# EAGLE library part PCA9555PW (library PCA9555PW)
Check prices <https://pricing.snapeda.com/parts/PCA9555PW/Texas%20Instruments/view-part?ref=eda>
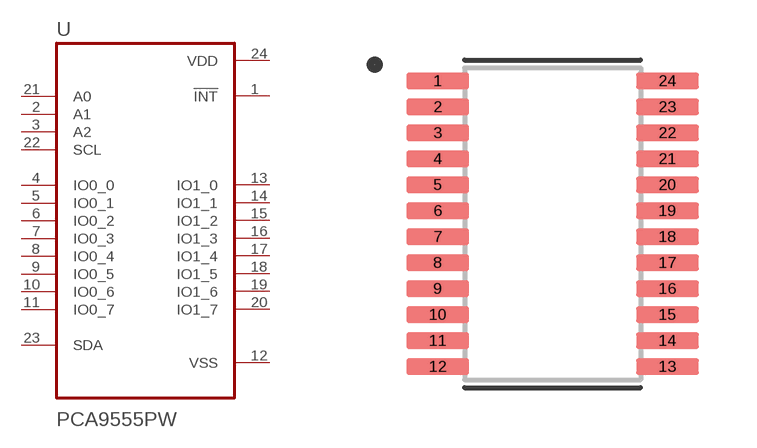
[diagram p0: symbol with the pads of SOP65P640X120-24N; footprint SOP65P640X120-24N]

Designator prefix U

## PCA9555PW (Availability: Good; Description: Remote 16-Bit I2C And SMBus I/O Expander With Interrupt Output And Configuration Registers 24-TSSOP -40 to 85; MF: Texas Instruments; MP: PCA9555PW; Package: TSSOP-24 Texas Instruments; Price: None; Purchase-URL: https://pricing.snapeda.com/search/part/PCA9555PW/?ref=eda)  [SOP65P640X120-24N]
1  !INT  out
2  A1  in
3  A2  in
4  IO0_0
5  IO0_1
6  IO0_2
7  IO0_3
8  IO0_4
9  IO0_5
10  IO0_6
11  IO0_7
12  VSS  pwr
13  IO1_0
14  IO1_1
15  IO1_2
16  IO1_3
17  IO1_4
18  IO1_5
19  IO1_6
20  IO1_7
21  A0  in
22  SCL  in
23  SDA
24  VDD  pwr

## Footprint SOP65P640X120-24N (pad centres in mm)
smd 1.57 x 0.41: 1 -2.87,3.575; 2 -2.87,2.925; 3 -2.87,2.275; 4 -2.87,1.625; 5 -2.87,0.975; 6 -2.87,0.325; 7 -2.87,-0.325; 8 -2.87,-0.975; 9 -2.87,-1.625; 10 -2.87,-2.275; 11 -2.87,-2.925; 12 -2.87,-3.575; 13 2.87,-3.575; 14 2.87,-2.925; 15 2.87,-2.275; 16 2.87,-1.625; 17 2.87,-0.975; 18 2.87,-0.325; 19 2.87,0.325; 20 2.87,0.975; 21 2.87,1.625; 22 2.87,2.275; 23 2.87,2.925; 24 2.87,3.575